# Altium schematic symbol library NeoIVClock.SchLib: 24 symbols
Pins are listed as number, name and electrical type; pins without a type are passive.

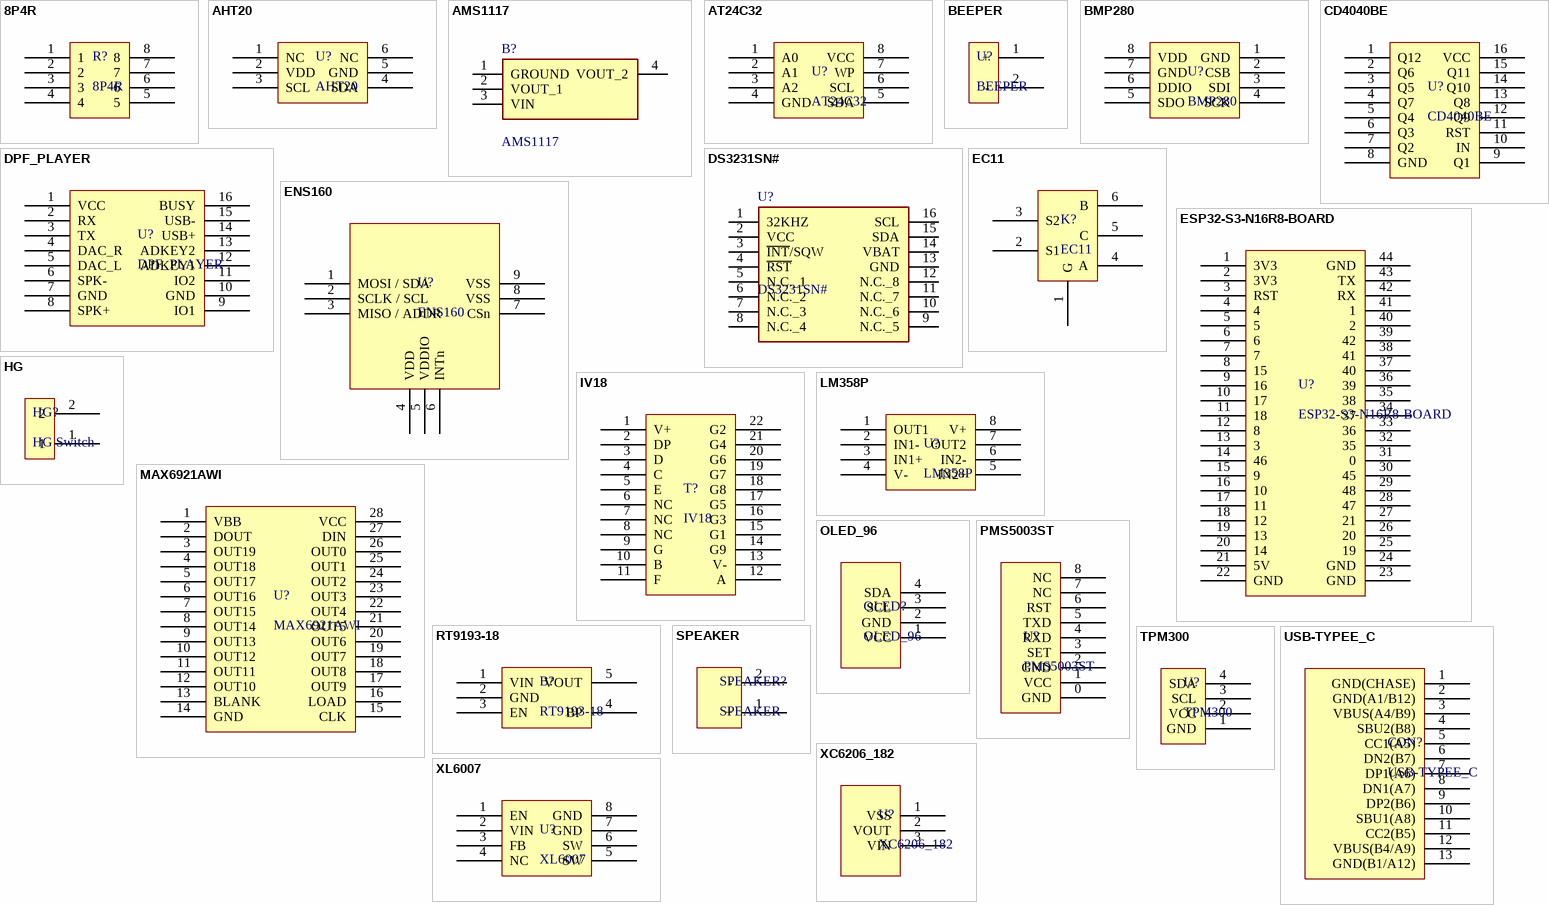
[diagram p0: symbols 8P4R to XL6007]

## 8P4R
designator R?
footprint 8P4R 0603 (1/10W贴片排阻)
pins: 1, 2, 3, 4, 5, 6, 7, 8

## AHT20
designator U?
pins: 1 NC, 2 VDD, 3 SCL, 4 SDA, 5 GND, 6 NC

## AMS1117
designator B?
1117; Manufacturer_Name: Advanced Monolithic Systems; Geometry.Height: 1.8mm; Manufacturer_Part_Number: AMS1117; Mouser Part Number: *; Mouser Price/Stock: *; Arrow Part Number: *; Arrow Price/Stock: *; Datasheet Link: https://datasheet.lcsc.com/szlcsc/Advanced-Monolithic-Systems-AMS-AMS1117-ADJ_C6188.pdf
footprint SOT229P700X180-4N
pins: 1 GROUND, 2 VOUT_1, 3 VIN, 4 VOUT_2

## AT24C32
designator U?
footprint DIP-8 (DIP; 8 Leads; Row Spacing 7.62 mm; Pitch 2.54 mm)
pins: 1 A0, 2 A1, 3 A2, 4 GND, 5 SDA, 6 SCL, 7 WP, 8 VCC

## BEEPER
designator U?
footprint BEEPER
pins: 1 +, 2 -

## BMP280
designator U?
footprint BMP280
pins: 1 GND, 2 CSB, 3 SDI, 4 SCK, 5 SDO, 6 DDIO, 7 GND, 8 VDD

## CD4040BE
designator U?
footprint DIP-16 (DIP; 16 Leads; Row Spacing 7.62 mm; Pitch 2.54 mm)
pins: 1 Q12, 2 Q6, 3 Q5, 4 Q7, 5 Q4, 6 Q3, 7 Q2, 8 GND, 9 Q1, 10 IN, 11 RST, 12 Q9, 13 Q8, 14 Q10, 15 Q11, 16 VCC

## DPF_PLAYER
designator U?
footprint DPF_PLAYER
pins: 1 VCC, 2 RX, 3 TX, 4 DAC_R, 5 DAC_L, 6 SPK-, 7 GND, 8 SPK+, 9 IO1, 10 GND, 11 IO2, 12 ADKEY1, 13 ADKEY2, 14 USB+, 15 USB-, 16 BUSY

## DS3231SN#
designator U?
Real Time Clock Serial Maxim DS3231SN# Real Time Clock, Battery Backup, Calendar, Clock, I2C, 5.5 V, 16-Pin SOIC; Manufacturer_Name: Analog Devices; Geometry.Height: 2.65mm; Manufacturer_Part_Number: DS3231SN#; Mouser Part Number: 700-DS3231SN#; Mouser Price/Stock: https://www.mouser.co.uk/ProductDetail/Analog-Devices-Maxim-Integrated/DS3231SN?qs=1eQvB6Dk1vhUlr8%2FOrV0Fw%3D%3D; Arrow Part Number: DS3231SN#; Arrow Price/Stock: https://www.arrow.com/en/products/ds3231sn_2/analog-devices.html?utm_currency=USD&region=nac; Datasheet Link: https://datasheets.maximintegrated.com/en/ds/DS3231.pdf
footprint SOIC127P1032X265-16N
pins: 1 32KHZ, 2 VCC, 3 ~{INT}/SQW, 4 ~{RST}, 5 N.C._1, 6 N.C._2, 7 N.C._3, 8 N.C._4, 9 N.C._5, 10 N.C._6, 11 N.C._7, 12 N.C._8, 13 GND, 14 VBAT, 15 SDA, 16 SCL

## EC11
designator K?
footprint EC11
pins: 1 G, 2 S1, 3 S2, 4 A, 5 C, 6 B

## ENS160
designator U?
footprint ENS160
pins: 1 MOSI / SDA, 2 SCLK / SCL, 3 MISO / ADDR, 4 VDD, 5 VDDIO, 6 INTn, 7 CSn, 8 VSS, 9 VSS

## ESP32-S3-N16R8-BOARD
designator U?
footprint ESP32-S3-N16R8-BOARD
pins: 1 3V3, 2 3V3, 3 RST, 4, 5, 6, 7, 8 15, 9 16, 10 17, 11 18, 12 8, 13 3, 14 46, 15 9, 16 10, 17 11, 18 12, 19 13, 20 14, 21 5V, 22 GND, 23 GND, 24 GND, 25 19, 26 20, 27 21, 28 47, 29 48, 30 45, 31 0, 32 35, 33 36, 34 37, 35 38, 36 39, 37 40, 38 41, 39 42, 40 2, 41 1, 42 RX, 43 TX, 44 GND

## HG
designator HG?, comment HG Switch
footprint HG (HG Switch)
pins: 1, 2

## IV18
designator T?
footprint IV18
pins: 1 V+, 2 DP, 3 D, 4 C, 5 E, 6 NC, 7 NC, 8 NC, 9 G, 10 B, 11 F, 12 A, 13 V-, 14 G9, 15 G1, 16 G3, 17 G5, 18 G8, 19 G7, 20 G6, 21 G4, 22 G2

## LM358P
designator U?
footprint DIP-8 (DIP; 8 Leads; Row Spacing 7.62 mm; Pitch 2.54 mm)
pins: 1 OUT1, 2 IN1-, 3 IN1+, 4 V-, 5 IN2+, 6 IN2-, 7 OUT2, 8 V+

## MAX6921AWI
designator U?
footprint SOIC127P1032X265-28N
pins: 1 VBB, 2 DOUT, 3 OUT19, 4 OUT18, 5 OUT17, 6 OUT16, 7 OUT15, 8 OUT14, 9 OUT13, 10 OUT12, 11 OUT11, 12 OUT10, 13 BLANK, 14 GND, 15 CLK, 16 LOAD, 17 OUT9, 18 OUT8, 19 OUT7, 20 OUT6, 21 OUT5, 22 OUT4, 23 OUT3, 24 OUT2, 25 OUT1, 26 OUT0, 27 DIN, 28 VCC

## OLED_96
designator OLED?
footprint OLED_96
pins: 1 VCC, 2 GND, 3 SCL, 4 SDA

## PMS5003ST
designator U?
footprint PMS5003ST
pins: 0 GND, 1 VCC, 2 GND, 3 SET, 4 RXD, 5 TXD, 6 RST, 7 NC, 8 NC

## RT9193-18
designator B?
footprint SOT23-5AL (SOT23, 5-Leads, Body 2.9x1.6mm, Pitch 0.95mm, Lead Span 2.8mm, IPC High Density)
pins: 1 VIN, 2 GND, 3 EN, 4 BP, 5 VOUT

## SPEAKER
designator SPEAKER?
footprint SPEAKER
pins: 1 +, 2 -

## TPM300
designator U?
footprint TPM300
pins: 1 GND, 2 VCC, 3 SCL, 4 SDA

## USB-TYPEE_C
designator CON?
footprint USB-TYPE_C
pins: 1 GND(CHASE), 2 GND(A1/B12), 3 VBUS(A4/B9), 4 SBU2(B8), 5 CC1(A5), 6 DN2(B7), 7 DP1(A6), 8 DN1(A7), 9 DP2(B6), 10 SBU1(A8), 11 CC2(B5), 12 VBUS(B4/A9), 13 GND(B1/A12)

## XC6206_182
designator U?
footprint SOT-23B_L (SOT23, 3-Leads, Body 2.9x1.3mm, Pitch 0.95mm, Lead Span 2.4mm, IPC High Density)
pins: 1 VSS, 2 VOUT, 3 VIN

## XL6007
designator U?
footprint SOP127P780-8L (SOP, 8-Leads, Body 5.3x5.3mm, Pitch 1.27mm, IPC High Density)
pins: 1 EN, 2 VIN, 3 FB, 4 NC, 5 SW, 6 SW, 7 GND, 8 GND